# EAGLE library part FTSH-105-01-L-DV-K (library FTSH-105-01-L-DV-K)
CONN HEADER, 1.27MM, 2X5WAY, SMT
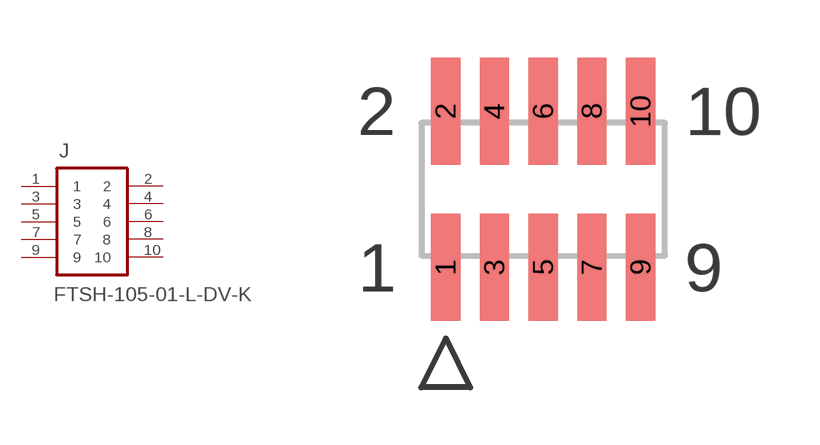
[diagram p0: symbol with the pads of SAMTEC_FTSH-105-01-L-DV-K; footprint SAMTEC_FTSH-105-01-L-DV-K]

Designator prefix J

## FTSH-105-01-L-DV-K (AVAILABILITY: Warning; DESCRIPTION: Conn Unshrouded Header HDR 10 POS 1.27mm Solder ST SMD Automotive T/R; MF: Samtec; MP: FTSH-105-01-L-DV-K-TR; PACKAGE: None; PRICE: 2.27 USD)  [SAMTEC_FTSH-105-01-L-DV-K]
1  1  pas
2  2  pas
3  3  pas
4  4  pas
5  5  pas
6  6  pas
7  7  pas
8  8  pas
9  9  pas
10  10  pas

## Footprint SAMTEC_FTSH-105-01-L-DV-K (pad centres in mm)
smd 0.762 x 2.794: 1 -2.54,-2.032; 2 -2.54,2.032; 3 -1.27,-2.032; 4 -1.27,2.032; 5 0,-2.032; 6 0,2.032; 7 1.27,-2.032; 8 1.27,2.032; 9 2.54,-2.032; 10 2.54,2.032